# Altium integrated library Seeed-OPL-Moudle.IntLib: 17 symbols
Pins are listed as number, name and electrical type; pins without a type are passive.

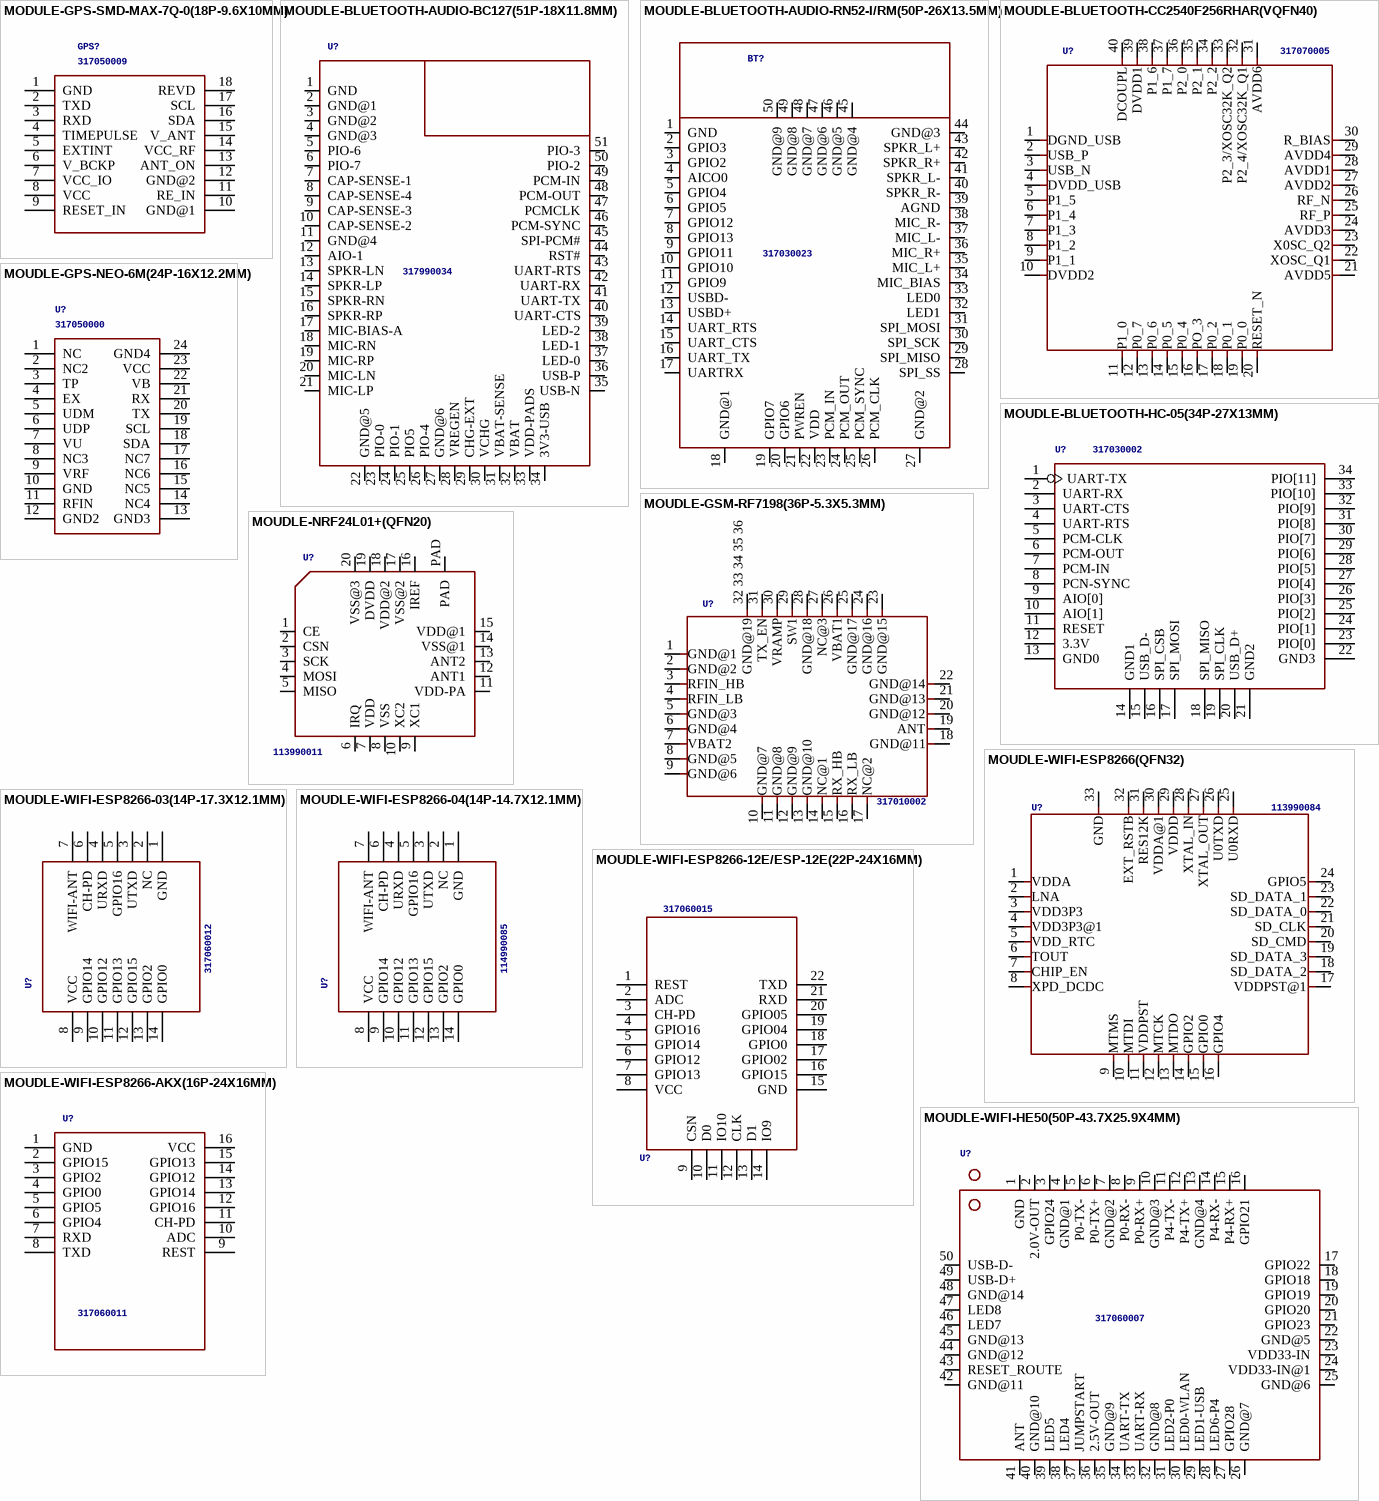
[diagram p0: symbols MODULE-GPS-SMD-MAX-7Q-0(18P-9.6X10MM) to MOUDLE-WIFI-HE50(50P-43.7X25.9X4MM)]

## MODULE-GPS-SMD-MAX-7Q-0(18P-9.6X10MM)
designator GPS?, comment 317050009
MPN: MAX-7Q-0
footprint GPS18P-SMD-1.1-10X9.6MM
pins: 1 GND, 2 TXD, 3 RXD, 4 TIMEPULSE, 5 EXTINT, 6 V_BCKP, 7 VCC_IO, 8 VCC, 9 RESET_IN, 10 GND@1, 11 RE_IN, 12 GND@2, 13 ANT_ON, 14 VCC_RF, 15 V_ANT, 16 SDA, 17 SCL, 18 REVD

## MOUDLE-BLUETOOTH-AUDIO-BC127(51P-18X11.8MM)
designator U?, comment 317990034
MPN: BC127
footprint LGA51-0.8-18X11.8MM
pins: 1 GND, 2 GND@1, 3 GND@2, 4 GND@3, 5 PIO-6, 6 PIO-7, 7 CAP-SENSE-1, 8 CAP-SENSE-4, 9 CAP-SENSE-3, 10 CAP-SENSE-2, 11 GND@4, 12 AIO-1, 13 SPKR-LN, 14 SPKR-LP, 15 SPKR-RN, 16 SPKR-RP, 17 MIC-BIAS-A, 18 MIC-RN, 19 MIC-RP, 20 MIC-LN, 21 MIC-LP, 22 GND@5, 23 PIO-0, 24 PIO-1, 25 PIO5, 26 PIO-4, 27 GND@6, 28 VREGEN, 29 CHG-EXT, 30 VCHG, 31 VBAT-SENSE, 32 VBAT, 33 VDD-PADS, 34 3V3-USB, 35 USB-N, 36 USB-P, 37 LED-0, 38 LED-1, 39 LED-2, 40 UART-CTS, 41 UART-TX, 42 UART-RX, 43 UART-RTS, 44 RST#, 45 SPI-PCM#, 46 PCM-SYNC, 47 PCMCLK, 48 PCM-OUT, 49 PCM-IN, 50 PIO-2, 51 PIO-3

## MOUDLE-BLUETOOTH-AUDIO-RN52-I/RM(50P-26X13.5MM)
designator BT?, comment 317030023
MPN: RN52-I/RM
footprint LGA50-1.0-26X13.5MM
pins: 1 GND, 2 GPIO3, 3 GPIO2, 4 AICO0, 5 GPIO4, 6 GPIO5, 7 GPIO12, 8 GPIO13, 9 GPIO11, 10 GPIO10, 11 GPIO9, 12 USBD-, 13 USBD+, 14 UART_RTS, 15 UART_CTS, 16 UART_TX, 17 UARTRX, 18 GND@1, 19 GPIO7, 20 GPIO6, 21 PWREN, 22 VDD, 23 PCM_IN, 24 PCM_OUT, 25 PCM_SYNC, 26 PCM_CLK, 27 GND@2, 28 SPI_SS, 29 SPI_MISO, 30 SPI_SCK, 31 SPI_MOSI, 32 LED1, 33 LED0, 34 MIC_BIAS, 35 MIC_L+, 36 MIC_R+, 37 MIC_L-, 38 MIC_R-, 39 AGND, 40 SPKR_R-, 41 SPKR_L-, 42 SPKR_R+, 43 SPKR_L+, 44 GND@3, 45 GND@4, 46 GND@5, 47 GND@6, 48 GND@7, 49 GND@8, 50 GND@9

## MOUDLE-BLUETOOTH-CC2540F256RHAR(VQFN40)
designator U?, comment 317070005
MPN: CC2540F256RHAR
footprint VQFN40G-0.5-6X6MM
pins: 1 DGND_USB, 2 USB_P, 3 USB_N, 4 DVDD_USB, 5 P1_5, 6 P1_4, 7 P1_3, 8 P1_2, 9 P1_1, 10 DVDD2, 11 P1_0, 12 P0_7, 13 P0_6, 14 P0_5, 15 P0_4, 16 PO_3, 17 P0_2, 18 P0_1, 19 P0_0, 20 RESET_N, 21 AVDD5, 22 XOSC_Q1, 23 X0SC_Q2, 24 AVDD3, 25 RF_P, 26 RF_N, 27 AVDD2, 28 AVDD1, 29 AVDD4, 30 R_BIAS, 31 AVDD6, 32 P2_4/XOSC32K_Q1, 33 P2_3/XOSC32K_Q2, 34 P2_2, 35 P2_1, 36 P2_0, 37 P1_7, 38 P1_6, 39 DVDD1, 40 DCOUPL

## MOUDLE-BLUETOOTH-HC-05(34P-27X13MM)
designator U?, comment 317030002
MPN: HC-05
footprint BT34P-SMD-1.5-26.9X13.0X2.2MM
pins: 1 UART-TX, 2 UART-RX, 3 UART-CTS, 4 UART-RTS, 5 PCM-CLK, 6 PCM-OUT, 7 PCM-IN, 8 PCN-SYNC, 9 AIO[0], 10 AIO[1], 11 RESET, 12 3.3V, 13 GND0, 14 GND1, 15 USB_D-, 16 SPI_CSB, 17 SPI_MOSI, 18 SPI_MISO, 19 SPI_CLK, 20 USB_D+, 21 GND2, 22 GND3, 23 PIO[0], 24 PIO[1], 25 PIO[2], 26 PIO[3], 27 PIO[4], 28 PIO[5], 29 PIO[6], 30 PIO[7], 31 PIO[8], 32 PIO[9], 33 PIO[10], 34 PIO[11]

## MOUDLE-GPS-NEO-6M(24P-16X12.2MM)
designator U?, comment 317050000
MPN: NEO-6M-GPS
footprint GPS24P-SMD-1.1-16X12.2MM
pins: 1 NC, 2 NC2, 3 TP, 4 EX, 5 UDM, 6 UDP, 7 VU, 8 NC3, 9 VRF, 10 GND, 11 RFIN, 12 GND2, 13 GND3, 14 NC4, 15 NC5, 16 NC6, 17 NC7, 18 SDA, 19 SCL, 20 TX, 21 RX, 22 VB, 23 VCC, 24 GND4

## MOUDLE-GSM-RF7198(36P-5.3X5.3MM)
designator U?, comment 317010002
MPN: RF7198
footprint GSM36-SMD-0.5-5.3X5.3X0.75MM
pins: 1 GND@1, 2 GND@2, 3 RFIN_HB, 4 RFIN_LB, 5 GND@3, 6 GND@4, 7 VBAT2, 8 GND@5, 9 GND@6, 10 GND@7, 11 GND@8, 12 GND@9, 13 GND@10, 14 NC@1, 15 RX_HB, 16 RX_LB, 17 NC@2, 18 GND@11, 19 ANT, 20 GND@12, 21 GND@13, 22 GND@14, 23 GND@15, 24 GND@16, 25 GND@17, 26 VBAT1, 27 NC@3, 28 GND@18, 29 SW1, 30 VRAMP, 31 TX_EN, 32 33 34 35 36 GND@19

## MOUDLE-NRF24L01+(QFN20)
designator U?, comment 113990011
MPN: NRF24L01+
footprint QFN20G-0.5-4X4MM
pins: 1 CE, 2 CSN, 3 SCK, 4 MOSI, 5 MISO, 6 IRQ, 7 VDD, 8 VSS, 9 XC1, 10 XC2, 11 VDD-PA, 12 ANT1, 13 ANT2, 14 VSS@1, 15 VDD@1, 16 IREF, 17 VSS@2, 18 VDD@2, 19 DVDD, 20 VSS@3, PAD

## MOUDLE-WIFI-ESP8266(QFN32)
designator U?, comment 113990084
MPN: ESP8266-04
footprint QFN32G-0.5-5X5MM
pins: 1 VDDA, 2 LNA, 3 VDD3P3, 4 VDD3P3@1, 5 VDD_RTC, 6 TOUT, 7 CHIP_EN, 8 XPD_DCDC, 9 MTMS, 10 MTDI, 11 VDDPST, 12 MTCK, 13 MTDO, 14 GPIO2, 15 GPIO0, 16 GPIO4, 17 VDDPST@1, 18 SD_DATA_2, 19 SD_DATA_3, 20 SD_CMD, 21 SD_CLK, 22 SD_DATA_0, 23 SD_DATA_1, 24 GPIO5, 25 U0RXD, 26 U0TXD, 27 XTAL_OUT, 28 XTAL_IN, 29 VDDD, 30 VDDA@1, 31 RES12K, 32 EXT_RSTB, 33 GND

## MOUDLE-WIFI-ESP8266-03(14P-17.3X12.1MM)
designator U?, comment 317060012
MPN: ESP8266-ESP-03
footprint LGA14-2.0-17.3X12.1MM
pins: 1 GND, 2 NC, 3 UTXD, 4 URXD, 5 GPIO16, 6 CH-PD, 7 WIFI-ANT, 8 VCC, 9 GPIO14, 10 GPIO12, 11 GPIO13, 12 GPIO15, 13 GPIO2, 14 GPIO0

## MOUDLE-WIFI-ESP8266-04(14P-14.7X12.1MM)
designator U?, comment 114990085
MPN: ESP8266-04
footprint LGA14-2.0-14.7X12.1MM
pins: 1 GND, 2 NC, 3 UTXD, 4 URXD, 5 GPIO16, 6 CH-PD, 7 WIFI-ANT, 8 VCC, 9 GPIO14, 10 GPIO12, 11 GPIO13, 12 GPIO15, 13 GPIO2, 14 GPIO0

## MOUDLE-WIFI-ESP8266-12E/ESP-12E(22P-24X16MM)
designator U?, comment 317060015
MPN: ESP8266-12E/ESP-12E
footprint LGA22-2.0-24X16MM
pins: 1 REST, 2 ADC, 3 CH-PD, 4 GPIO16, 5 GPIO14, 6 GPIO12, 7 GPIO13, 8 VCC, 9 CSN, 10 D0, 11 IO10, 12 CLK, 13 D1, 14 IO9, 15 GND, 16 GPIO15, 17 GPIO02, 18 GPIO0, 19 GPIO04, 20 GPIO05, 21 RXD, 22 TXD

## MOUDLE-WIFI-ESP8266-AKX(16P-24X16MM)
designator U?, comment 317060011
MPN: ES8266
footprint LGA16-2.0-24X16MM
pins: 1 GND, 2 GPIO15, 3 GPIO2, 4 GPIO0, 5 GPIO5, 6 GPIO4, 7 RXD, 8 TXD, 9 REST, 10 ADC, 11 CH-PD, 12 GPIO16, 13 GPIO14, 14 GPIO12, 15 GPIO13, 16 VCC

## MOUDLE-WIFI-HE50(50P-43.7X25.9X4MM)
designator U?, comment 317060007
MPN: HE50
footprint LGA50-2.54-43.7X25.9X4MM
pins: 1 GND (oe), 2 2.0V-OUT, 3 GPIO24, 4 GND@1 (oe), 5 P0-TX-, 6 P0-TX+, 7 GND@2 (oe), 8 P0-RX-, 9 P0-RX+, 10 GND@3 (oe), 11 P4-TX-, 12 P4-TX+, 13 GND@4, 14 P4-RX-, 15 P4-RX+, 16 GPIO21, 17 GPIO22, 18 GPIO18, 19 GPIO19, 20 GPIO20, 21 GPIO23, 22 GND@5 (oe), 23 VDD33-IN (power), 24 VDD33-IN@1 (power), 25 GND@6 (oe), 26 GND@7 (oe), 27 GPIO28, 28 LED6-P4, 29 LED1-USB, 30 LED0-WLAN, 31 LED2-P0, 32 GND@8 (oe), 33 UART-RX, 34 UART-TX, 35 GND@9 (oe), 36 2.5V-OUT (power), 37 JUMPSTART, 38 LED4, 39 LED5, 40 GND@10 (oe), 41 ANT, 42 GND@11 (oe), 43 RESET_ROUTE, 44 GND@12 (oe), 45 GND@13 (oe), 46 LED7, 47 LED8, 48 GND@14 (oe), 49 USB-D+, 50 USB-D-

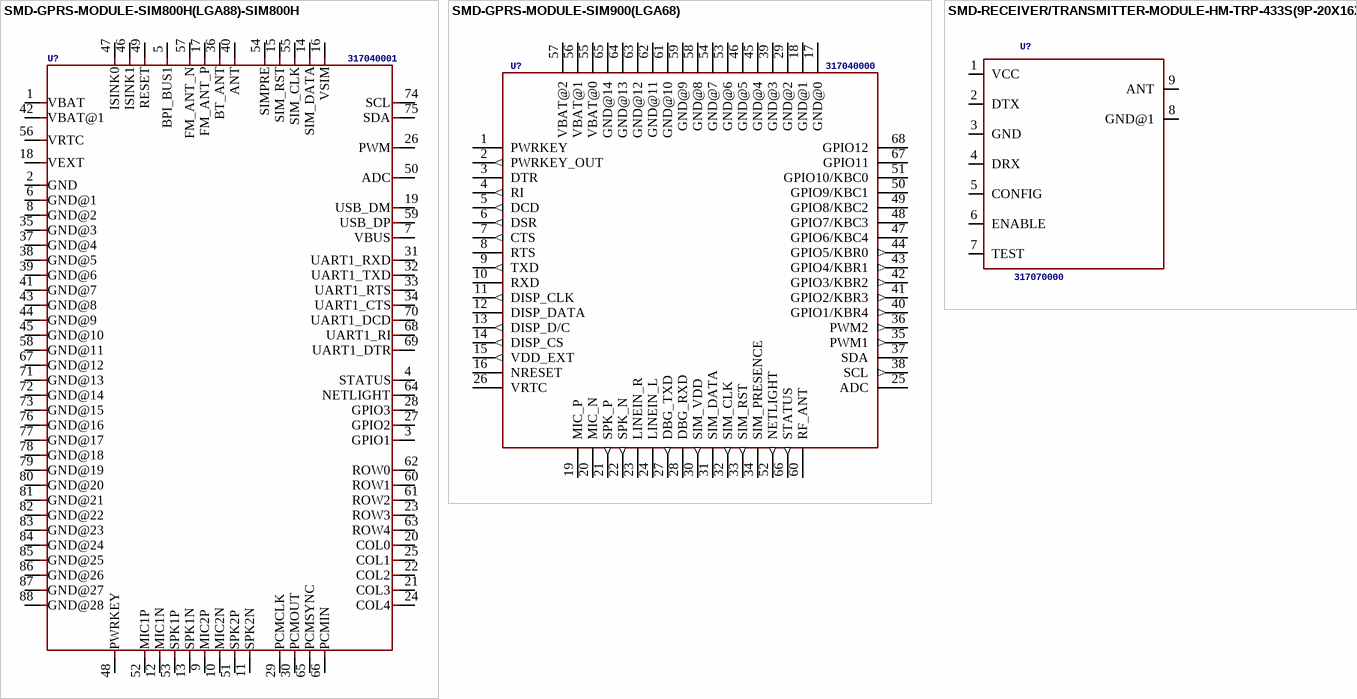
[diagram p1: symbols SMD-GPRS-MODULE-SIM800H(LGA88)-SIM800H to SMD-RECEIVER/TRANSMITTER-MODULE-HM-TRP-433S(9P-20X16X2MM)]

## SMD-GPRS-MODULE-SIM800H(LGA88)-SIM800H
designator U?, comment 317040001
MPN: SIM800H
footprint LGA88-1.4-17.8X15.8X2.4MM
pins: 1 VBAT, 2 GND, 3 GPIO1, 4 STATUS, 5 BPI_BUS1, 6 GND@1, 7 VBUS, 8 GND@2, 9 MIC2P, 10 MIC2N, 11 SPK2N, 12 MIC1N, 13 SPK1N, 14 SIM_DATA, 15 SIM_RST, 16 VSIM, 17 FM_ANT_P, 18 VEXT, 19 USB_DM, 20 COL0, 21 COL3, 22 COL2, 23 ROW3, 24 COL4, 25 COL1, 26 PWM, 27 GPIO2, 28 GPIO3, 29 PCMCLK, 30 PCMOUT, 31 UART1_RXD, 32 UART1_TXD, 33 UART1_RTS, 34 UART1_CTS, 35 GND@3, 36 BT_ANT, 37 GND@4, 38 GND@5, 39 GND@6, 40 ANT, 41 GND@7, 42 VBAT@1, 43 GND@8, 44 GND@9, 45 GND@10, 46 ISINK1, 47 ISINK0, 48 PWRKEY, 49 RESET, 50 ADC, 51 SPK2P, 52 MIC1P, 53 SPK1P, 54 SIMPRE, 55 SIM_CLK, 56 VRTC, 57 FM_ANT_N, 58 GND@11, 59 USB_DP, 60 ROW1, 61 ROW2, 62 ROW0, 63 ROW4, 64 NETLIGHT, 65 PCMSYNC, 66 PCMIN, 67 GND@12, 68 UART1_RI, 69 UART1_DTR, 70 UART1_DCD, 71 GND@13, 72 GND@14, 73 GND@15, 74 SCL, 75 SDA, 76 GND@16, 77 GND@17, 78 GND@18, 79 GND@19, 80 GND@20, 81 GND@21, 82 GND@22, 83 GND@23, 84 GND@24, 85 GND@25, 86 GND@26, 87 GND@27, 88 GND@28

## SMD-GPRS-MODULE-SIM900(LGA68)
designator U?, comment 317040000
MPN: SIM900
footprint LGA68-1.0-24.0X24.0X3.0MM
pins: 1 PWRKEY, 2 PWRKEY_OUT (out), 3 DTR, 4 RI (out), 5 DCD (out), 6 DSR (out), 7 CTS (out), 8 RTS, 9 TXD (out), 10 RXD, 11 DISP_CLK (out), 12 DISP_DATA, 13 DISP_D/C (out), 14 DISP_CS (out), 15 VDD_EXT (out), 16 NRESET, 17 GND@0 (power), 18 GND@1 (power), 19 MIC_P, 20 MIC_N, 21 SPK_P (out), 22 SPK_N (out), 23 LINEIN_R, 24 LINEIN_L, 25 ADC, 26 VRTC, 27 DBG_TXD (out), 28 DBG_RXD, 29 GND@2 (power), 30 SIM_VDD (out), 31 SIM_DATA, 32 SIM_CLK (out), 33 SIM_RST (out), 34 SIM_PRESENCE, 35 PWM1 (out), 36 PWM2 (out), 37 SDA, 38 SCL (out), 39 GND@3 (power), 40 GPIO1/KBR4 (out), 41 GPIO2/KBR3 (out), 42 GPIO3/KBR2 (out), 43 GPIO4/KBR1 (out), 44 GPIO5/KBR0 (out), 45 GND@4 (power), 46 GND@5 (power), 47 GPIO6/KBC4, 48 GPIO7/KBC3, 49 GPIO8/KBC2, 50 GPIO9/KBC1, 51 GPIO10/KBC0, 52 NETLIGHT (out), 53 GND@6 (power), 54 GND@7 (power), 55 VBAT@0 (power), 56 VBAT@1 (power), 57 VBAT@2 (power), 58 GND@8 (power), 59 GND@9 (power), 60 RF_ANT, 61 GND@10 (power), 62 GND@11 (power), 63 GND@12 (power), 64 GND@13 (power), 65 GND@14 (power), 66 STATUS (out), 67 GPIO11, 68 GPIO12

## SMD-RECEIVER/TRANSMITTER-MODULE-HM-TRP-433S(9P-20X16X2MM)
designator U?, comment 317070000
MPN: HM-TRP-433S
footprint LGA9-2.0-20X16X2MM
pins: 1 VCC (power), 2 DTX, 3 GND (oe), 4 DRX, 5 CONFIG, 6 ENABLE, 7 TEST, 8 GND@1, 9 ANT